# Altium footprint library Pattern No3d 20090609.PcbLib: 323 footprints (part 16 of 22)
Each footprint in its own frame and in the unit in brackets; x right, y up, seen from the top. Pads: shape width x height; smd on the part's side, far side on the other; paste and mask are expansions set on the pad; w line width, h text height; cw(c..) or ccw(c..) is an arc to the next point about the centre after c.
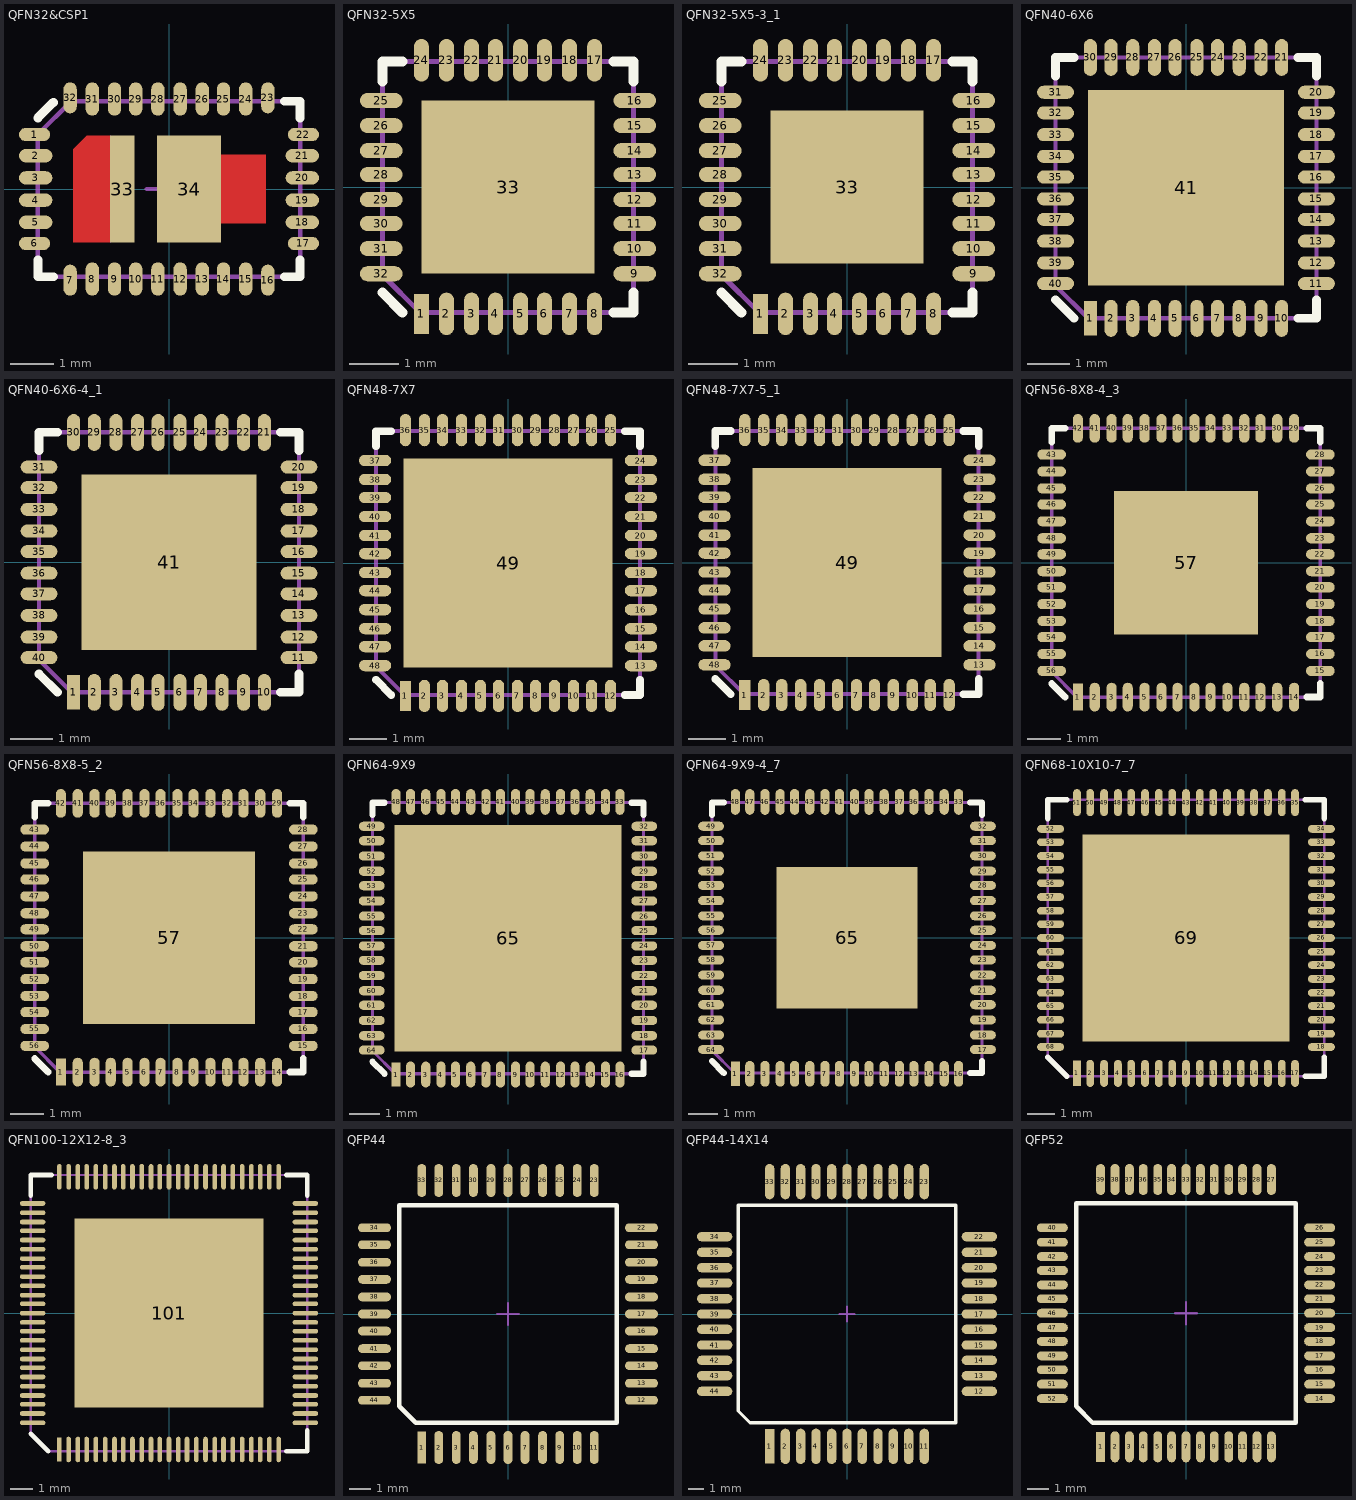
[diagram p15: the footprints below, top view; thin cyan lines are the x and y axes]

## QFN32&CSP1 [mil] "http://rfwireless.rell.com/pdfs/AN_C0283.pdf"
pads (34):
  oval 28x12 smd mask-1000: 1(-121,49) 6(-121,-49) 17(121,-49) 22(121,49)
  oval 30x12 smd mask-1000: 2(-120,30) 3(-120,10) 4(-120,-10) 5(-120,-30) 18(120,-30) 19(120,-10) 20(120,10) 21(120,30)
  oval 12x28 smd mask-1000: 7(-89,-82) 16(89,-82) 23(89,82) 32(-89,82)
  oval 12x30 smd mask-1000: 8(-69,-81) 9(-49,-81) 10(-30,-81) 11(-10,-81) 12(10,-81) 13(30,-81) 14(49,-81) 15(69,-81) 24(69,81) 25(49,81) 26(30,81) 27(10,81) 28(-10,81) 29(-30,81) 30(-49,81) 31(-69,81)
  rect 22x96 smd paste-1000 mask-1000: 33(-42,0)
  rect 58x96 smd paste-1000 mask-1000: 34(18,0)
Top Layer:
  region: -53,-48 -53,48 -74,48 -86,36 -86,-48
  region: 47,-31 87,-31 87,31 47,31
Top Overlay:
  lines w8: -118,-64 -118,-79 -104,-79 ; -118,64 -104,78 ; 104,-79 118,-79 118,-64 ; 104,79 118,79 118,64
Top Paste:
  region: 31,28 5,28 5,6 31,6
  region: 31,-6 5,-6 5,-28 31,-28
  region: 71,11 45,11 45,-11 71,-11
  region: -45,-6 -71,-6 -71,-28 -45,-28
  region: -45,28 -71,28 -71,6 -45,6
Top Solder:
  region: -28,51 -28,-51 -89,-51 -89,37 -75,51
  region: 50,-51 50,-34 90,-34 90,34 50,34 50,51 -14,51 -14,-51
  lines w14: -132,-30 -108,-30 ; -132,-10 -108,-10 ; -132,10 -108,10 ; -132,30 -108,30 ; -69,-93 -69,-69 ; -69,69 -69,93 ; -49,-93 -49,-69 ; -49,69 -49,93 ; -30,-93 -30,-69 ; -30,69 -30,93 ; -10,-93 -10,-69 ; -10,69 -10,93 ; 10,-93 10,-69 ; 10,69 10,93 ; 30,-93 30,-69 ; 30,69 30,93 ; 49,-93 49,-69 ; 49,69 49,93 ; 69,-93 69,-69 ; 69,69 69,93 ; 108,-30 132,-30 ; 108,-10 132,-10 ; 108,10 132,10 ; 108,30 132,30
  lines w16: -131,-50 -111,-50 ; -131,50 -111,50 ; -90,-92 -90,-72 ; -90,72 -90,92 ; 90,-92 90,-72 ; 90,72 90,92 ; 111,-50 131,-50 ; 111,50 131,50
Mechanical 1:
  lines w4: -118,-79 118,-79 118,79 -88,79 -118,49 -118,-79
Mechanical 15:
  lines w4: -20,0 20,0 ; 0,-20 0,20

## QFN32-5X5 [mil] "http://www.nxp.com/acrobat_download/packages/SOT617-3.pdf"
pads (33):
  rect 12x32 smd mask-1000: 1(-69,-101)
  oval 12x34 smd mask-1000: 2(-49,-101) 3(-29,-101) 4(-10,-101) 5(10,-101) 6(29,-101) 7(49,-101) 8(69,-101) 17(69,101) 18(49,101) 19(29,101) 20(10,101) 21(-10,101) 22(-29,101) 23(-49,101) 24(-69,101)
  oval 34x12 smd mask-1000: 9(101,-69) 10(101,-49) 11(101,-29) 12(101,-10) 13(101,10) 14(101,29) 15(101,49) 16(101,69) 25(-101,69) 26(-101,49) 27(-101,29) 28(-101,10) 29(-101,-10) 30(-101,-29) 31(-101,-49) 32(-101,-69)
  rect 138x138 smd paste-1000 mask+3: 33(0,0)
Top Overlay:
  lines w8: -100,-84 -84,-100 ; -100,84 -100,100 -84,100 ; 84,-100 100,-100 100,-84 ; 84,100 100,100 100,84
Top Paste:
  region: -42,-42 -22,-42 -22,-22 -42,-22
  region: -10,-42 10,-42 10,-22 -10,-22
  region: -10,-10 10,-10 10,10 -10,10
  region: -42,-10 -22,-10 -22,10 -42,10
  region: 22,-42 42,-42 42,-22 22,-22
  region: 22,-10 42,-10 42,10 22,10
  region: 22,22 42,22 42,42 22,42
  region: -42,22 -22,22 -22,42 -42,42
  region: -10,22 10,22 10,42 -10,42
Top Solder:
  region: -62,-121 -62,-81 -78,-81 -78,-121
  lines w14: -115,-49 -87,-49 ; -115,-29 -87,-29 ; -115,-10 -87,-10 ; -115,10 -87,10 ; -115,29 -87,29 ; -115,49 -87,49 ; -49,-115 -49,-87 ; -49,87 -49,115 ; -29,-115 -29,-87 ; -29,87 -29,115 ; -10,-115 -10,-87 ; -10,87 -10,115 ; 10,-115 10,-87 ; 10,87 10,115 ; 29,-115 29,-87 ; 29,87 29,115 ; 49,-115 49,-87 ; 49,87 49,115 ; 87,-49 115,-49 ; 87,-29 115,-29 ; 87,-10 115,-10 ; 87,10 115,10 ; 87,29 115,29 ; 87,49 115,49
  lines w16: -114,-70 -88,-70 ; -114,70 -88,70 ; -70,88 -70,114 ; 70,-114 70,-88 ; 70,88 70,114 ; 88,-70 114,-70 ; 88,70 114,70
Mechanical 1:
  lines w4: -100,-70 -70,-100 100,-100 100,100 -100,100 -100,-70
Mechanical 15:
  lines w4: -20,0 20,0 ; 0,-20 0,20

## QFN32-5X5-3_1 [mil] "http://www.nxp.com/acrobat_download/packages/SOT617-1.pdf"
pads (33):
  rect 12x32 smd mask-1000: 1(-69,-101)
  oval 12x34 smd mask-1000: 2(-49,-101) 3(-29,-101) 4(-10,-101) 5(10,-101) 6(29,-101) 7(49,-101) 8(69,-101) 17(69,101) 18(49,101) 19(29,101) 20(10,101) 21(-10,101) 22(-29,101) 23(-49,101) 24(-69,101)
  oval 34x12 smd mask-1000: 9(101,-69) 10(101,-49) 11(101,-29) 12(101,-10) 13(101,10) 14(101,29) 15(101,49) 16(101,69) 25(-101,69) 26(-101,49) 27(-101,29) 28(-101,10) 29(-101,-10) 30(-101,-29) 31(-101,-49) 32(-101,-69)
  rect 122x122 smd paste-1000 mask+3: 33(0,0)
Top Overlay:
  lines w8: -100,-84 -84,-100 ; -100,84 -100,100 -84,100 ; 84,-100 100,-100 100,-84 ; 84,100 100,100 100,84
Top Paste:
  region: 8,-36 36,-36 36,-8 8,-8
  region: -36,-36 -8,-36 -8,-8 -36,-8
  region: 8,8 36,8 36,36 8,36
  region: -36,8 -8,8 -8,36 -36,36
Top Solder:
  region: -62,-121 -62,-81 -78,-81 -78,-121
  lines w14: -115,-49 -87,-49 ; -115,-29 -87,-29 ; -115,-10 -87,-10 ; -115,10 -87,10 ; -115,29 -87,29 ; -115,49 -87,49 ; -49,-115 -49,-87 ; -49,87 -49,115 ; -29,-115 -29,-87 ; -29,87 -29,115 ; -10,-115 -10,-87 ; -10,87 -10,115 ; 10,-115 10,-87 ; 10,87 10,115 ; 29,-115 29,-87 ; 29,87 29,115 ; 49,-115 49,-87 ; 49,87 49,115 ; 87,-49 115,-49 ; 87,-29 115,-29 ; 87,-10 115,-10 ; 87,10 115,10 ; 87,29 115,29 ; 87,49 115,49
  lines w16: -114,-70 -88,-70 ; -114,70 -88,70 ; -70,88 -70,114 ; 70,-114 70,-88 ; 70,88 70,114 ; 88,-70 114,-70 ; 88,70 114,70
Mechanical 1:
  lines w4: -100,-70 -100,100 100,100 100,-100 -70,-100 -100,-70
Mechanical 15:
  lines w4: -20,0 20,0 ; 0,-20 0,20

## QFN40-6X6 [mil] "http://www.nxp.com/acrobat_download/packages/SOT618-3.pdf"
pads (41):
  rect 12x32 smd mask-1000: 1(-88,-120)
  oval 12x34 smd mask-1000: 2(-69,-120) 3(-49,-120) 4(-29,-120) 5(-10,-120) 6(10,-120) 7(29,-120) 8(49,-120) 9(69,-120) 10(88,-120) 21(88,120) 22(69,120) 23(49,120) 24(29,120) 25(10,120) 26(-10,120) 27(-29,120) 28(-49,120) 29(-69,120) 30(-88,120)
  oval 34x12 smd mask-1000: 11(120,-88) 12(120,-69) 13(120,-49) 14(120,-29) 15(120,-10) 16(120,10) 17(120,29) 18(120,49) 19(120,69) 20(120,88) 31(-120,88) 32(-120,69) 33(-120,49) 34(-120,29) 35(-120,10) 36(-120,-10) 37(-120,-29) 38(-120,-49) 39(-120,-69) 40(-120,-88)
  rect 180x180 smd paste-1000 mask+3: 41(0,0)
Top Overlay:
  lines w8: -120,-103 -103,-120 ; -120,103 -120,120 -103,120 ; 103,-120 120,-120 120,-103 ; 103,120 120,120 120,103
Top Paste:
  region: -49,-49 -23,-49 -23,-23 -49,-23
  region: -13,-49 13,-49 13,-23 -13,-23
  region: 23,-49 49,-49 49,-23 23,-23
  region: 23,-13 49,-13 49,13 23,13
  region: 23,23 49,23 49,49 23,49
  region: -13,23 13,23 13,49 -13,49
  region: -49,23 -23,23 -23,49 -49,49
  region: -49,-13 -23,-13 -23,13 -49,13
  region: -13,-13 13,-13 13,13 -13,13
Top Solder:
  region: -81,-139 -81,-101 -97,-101 -97,-139
  lines w14: -133,-69 -107,-69 ; -133,-49 -107,-49 ; -133,-29 -107,-29 ; -133,-10 -107,-10 ; -133,10 -107,10 ; -133,29 -107,29 ; -133,49 -107,49 ; -133,69 -107,69 ; -69,-133 -69,-107 ; -69,107 -69,133 ; -49,-133 -49,-107 ; -49,107 -49,133 ; -29,-133 -29,-107 ; -29,107 -29,133 ; -10,-133 -10,-107 ; -10,107 -10,133 ; 10,-133 10,-107 ; 10,107 10,133 ; 29,-133 29,-107 ; 29,107 29,133 ; 49,-133 49,-107 ; 49,107 49,133 ; 69,-133 69,-107 ; 69,107 69,133 ; 107,-69 133,-69 ; 107,-49 133,-49 ; 107,-29 133,-29 ; 107,-10 133,-10 ; 107,10 133,10 ; 107,29 133,29 ; 107,49 133,49 ; 107,69 133,69
  lines w16: -132,-89 -108,-89 ; -132,89 -108,89 ; -89,108 -89,132 ; 89,-132 89,-108 ; 89,108 89,132 ; 108,-89 132,-89 ; 108,89 132,89
Mechanical 1:
  lines w4: -120,-90 -90,-120 120,-120 120,120 -120,120 -120,-90
Mechanical 15:
  lines w4: -20,0 20,0 ; 0,-20 0,20

## QFN40-6X6-4_1 [mil] "http://www.nxp.com/acrobat_download/packages/SOT618-1.pdf"
pads (41):
  rect 12x32 smd mask-1000: 1(-88,-120)
  oval 12x34 smd mask-1000: 2(-69,-120) 3(-49,-120) 4(-29,-120) 5(-10,-120) 6(10,-120) 7(29,-120) 8(49,-120) 9(69,-120) 10(88,-120) 21(88,120) 22(69,120) 23(49,120) 24(29,120) 25(10,120) 26(-10,120) 27(-29,120) 28(-49,120) 29(-69,120) 30(-88,120)
  oval 34x12 smd mask-1000: 11(120,-88) 12(120,-69) 13(120,-49) 14(120,-29) 15(120,-10) 16(120,10) 17(120,29) 18(120,49) 19(120,69) 20(120,88) 31(-120,88) 32(-120,69) 33(-120,49) 34(-120,29) 35(-120,10) 36(-120,-10) 37(-120,-29) 38(-120,-49) 39(-120,-69) 40(-120,-88)
  rect 162x162 smd paste-1000 mask+3: 41(0,0)
Top Overlay:
  lines w8: -120,-103 -103,-120 ; -120,103 -120,120 -103,120 ; 103,-120 120,-120 120,-103 ; 103,120 120,120 120,103
Top Paste:
  region: 48,24 48,48 24,48 24,24
  region: -24,24 -24,48 -48,48 -48,24
  region: -48,-24 -48,-48 -24,-48 -24,-24
  region: 24,-24 24,-48 48,-48 48,-24
  region: -12,-24 -12,-48 12,-48 12,-24
  region: -24,12 -48,12 -48,-12 -24,-12
  region: 12,24 12,48 -12,48 -12,24
  region: 24,-12 48,-12 48,12 24,12
  region: -12,-12 12,-12 12,12 -12,12
Top Solder:
  region: -81,-140 -81,-100 -97,-100 -97,-140
  lines w14: -134,-69 -106,-69 ; -134,-49 -106,-49 ; -134,-29 -106,-29 ; -134,-10 -106,-10 ; -134,10 -106,10 ; -134,29 -106,29 ; -134,49 -106,49 ; -134,69 -106,69 ; -69,-134 -69,-106 ; -69,106 -69,134 ; -49,-134 -49,-106 ; -49,106 -49,134 ; -29,-134 -29,-106 ; -29,106 -29,134 ; -10,-134 -10,-106 ; -10,106 -10,134 ; 10,-134 10,-106 ; 10,106 10,134 ; 29,-134 29,-106 ; 29,106 29,134 ; 49,-134 49,-106 ; 49,106 49,134 ; 69,-134 69,-106 ; 69,106 69,134 ; 106,-69 134,-69 ; 106,-49 134,-49 ; 106,-29 134,-29 ; 106,-10 134,-10 ; 106,10 134,10 ; 106,29 134,29 ; 106,49 134,49 ; 106,69 134,69
  lines w16: -133,-89 -107,-89 ; -133,89 -107,89 ; -89,107 -89,133 ; 89,-133 89,-107 ; 89,107 89,133 ; 107,-89 133,-89 ; 107,89 133,89
Mechanical 1:
  lines w4: -120,-90 -120,120 120,120 120,-120 -90,-120 -120,-90
Mechanical 15:
  lines w4: -20,0 20,0 ; 0,-20 0,20

## QFN48-7X7 [mil] "http://www.nxp.com/acrobat_download/packages/SOT619-5.pdf"
pads (49):
  rect 12x32 smd mask-1000: 1(-108,-140)
  oval 12x34 smd mask-1000: 2(-88,-140) 3(-69,-140) 4(-49,-140) 5(-29,-140) 6(-10,-140) 7(10,-140) 8(29,-140) 9(49,-140) 10(69,-140) 11(88,-140) 12(108,-140) 25(108,140) 26(88,140) 27(69,140) 28(49,140) 29(29,140) 30(10,140) 31(-10,140) 32(-29,140) 33(-49,140) 34(-69,140) 35(-88,140) 36(-108,140)
  oval 34x12 smd mask-1000: 13(140,-108) 14(140,-88) 15(140,-69) 16(140,-49) 17(140,-29) 18(140,-10) 19(140,10) 20(140,29) 21(140,49) 22(140,69) 23(140,88) 24(140,108) 37(-140,108) 38(-140,88) 39(-140,69) 40(-140,49) 41(-140,29) 42(-140,10) 43(-140,-10) 44(-140,-29) 45(-140,-49) 46(-140,-69) 47(-140,-88) 48(-140,-108)
  rect 220x220 smd paste-1000 mask+3: 49(0,0)
Top Overlay:
  lines w8: -139,-123 -123,-139 ; -139,123 -139,139 -123,139 ; 123,-139 139,-139 139,-123 ; 123,139 139,139 139,123
Top Paste:
  region: 28,-16 60,-16 60,16 28,16
  region: -16,-16 16,-16 16,16 -16,16
  region: 16,28 16,60 -16,60 -16,28
  region: 60,28 60,60 28,60 28,28
  region: -28,16 -60,16 -60,-16 -28,-16
  region: -28,60 -60,60 -60,28 -28,28
  region: -16,-28 -16,-60 16,-60 16,-28
  region: -60,-28 -60,-60 -28,-60 -28,-28
  region: 28,-28 28,-60 60,-60 60,-28
Top Solder:
  region: -101,-159 -101,-121 -117,-121 -117,-159
  lines w14: -153,-88 -127,-88 ; -153,-69 -127,-69 ; -153,-49 -127,-49 ; -153,-29 -127,-29 ; -153,-10 -127,-10 ; -153,10 -127,10 ; -153,29 -127,29 ; -153,49 -127,49 ; -153,69 -127,69 ; -153,88 -127,88 ; -88,-153 -88,-127 ; -88,127 -88,153 ; -69,-153 -69,-127 ; -69,127 -69,153 ; -49,-153 -49,-127 ; -49,127 -49,153 ; -29,-153 -29,-127 ; -29,127 -29,153 ; -10,-153 -10,-127 ; -10,127 -10,153 ; 10,-153 10,-127 ; 10,127 10,153 ; 29,-153 29,-127 ; 29,127 29,153 ; 49,-153 49,-127 ; 49,127 49,153 ; 69,-153 69,-127 ; 69,127 69,153 ; 88,-153 88,-127 ; 88,127 88,153 ; 127,-88 153,-88 ; 127,-69 153,-69 ; 127,-49 153,-49 ; 127,-29 153,-29 ; 127,-10 153,-10 ; 127,10 153,10 ; 127,29 153,29 ; 127,49 153,49 ; 127,69 153,69 ; 127,88 153,88
  lines w16: -152,-109 -128,-109 ; -152,109 -128,109 ; -109,128 -109,152 ; 109,-152 109,-128 ; 109,128 109,152 ; 128,-109 152,-109 ; 128,109 152,109
Mechanical 1:
  lines w4: -139,-109 -109,-139 139,-139 139,139 -139,139 -139,-109
Mechanical 15:
  lines w4: -20,0 20,0 ; 0,-20 0,20

## QFN48-7X7-5_1 [mil] "http://www.nxp.com/acrobat_download/packages/SOT619-1.pdf"
pads (49):
  rect 12x32 smd mask-1000: 1(-108,-140)
  oval 12x34 smd mask-1000: 2(-88,-140) 3(-69,-140) 4(-49,-140) 5(-29,-140) 6(-10,-140) 7(10,-140) 8(29,-140) 9(49,-140) 10(69,-140) 11(88,-140) 12(108,-140) 25(108,140) 26(88,140) 27(69,140) 28(49,140) 29(29,140) 30(10,140) 31(-10,140) 32(-29,140) 33(-49,140) 34(-69,140) 35(-88,140) 36(-108,140)
  oval 34x12 smd mask-1000: 13(140,-108) 14(140,-88) 15(140,-69) 16(140,-49) 17(140,-29) 18(140,-10) 19(140,10) 20(140,29) 21(140,49) 22(140,69) 23(140,88) 24(140,108) 37(-140,108) 38(-140,88) 39(-140,69) 40(-140,49) 41(-140,29) 42(-140,10) 43(-140,-10) 44(-140,-29) 45(-140,-49) 46(-140,-69) 47(-140,-88) 48(-140,-108)
  rect 200x200 smd paste-1000 mask+3: 49(0,0)
Top Overlay:
  lines w8: -139,-123 -123,-139 ; -139,123 -139,139 -123,139 ; 123,-139 139,-139 139,-123 ; 123,139 139,139 139,123
Top Paste:
  region: -15,-60 15,-60 15,-30 -15,-30
  region: 30,-60 60,-60 60,-30 30,-30
  region: -60,-60 -30,-60 -30,-30 -60,-30
  region: -60,-15 -30,-15 -30,15 -60,15
  region: -15,-15 15,-15 15,15 -15,15
  region: 30,-15 60,-15 60,15 30,15
  region: 30,30 60,30 60,60 30,60
  region: -15,30 15,30 15,60 -15,60
  region: -60,30 -30,30 -30,60 -60,60
Top Solder:
  region: -101,-160 -101,-120 -117,-120 -117,-160
  lines w14: -154,-88 -126,-88 ; -154,-69 -126,-69 ; -154,-49 -126,-49 ; -154,-29 -126,-29 ; -154,-10 -126,-10 ; -154,10 -126,10 ; -154,29 -126,29 ; -154,49 -126,49 ; -154,69 -126,69 ; -154,88 -126,88 ; -88,-154 -88,-126 ; -88,126 -88,154 ; -69,-154 -69,-126 ; -69,126 -69,154 ; -49,-154 -49,-126 ; -49,126 -49,154 ; -29,-154 -29,-126 ; -29,126 -29,154 ; -10,-154 -10,-126 ; -10,126 -10,154 ; 10,-154 10,-126 ; 10,126 10,154 ; 29,-154 29,-126 ; 29,126 29,154 ; 49,-154 49,-126 ; 49,126 49,154 ; 69,-154 69,-126 ; 69,126 69,154 ; 88,-154 88,-126 ; 88,126 88,154 ; 126,-88 154,-88 ; 126,-69 154,-69 ; 126,-49 154,-49 ; 126,-29 154,-29 ; 126,-10 154,-10 ; 126,10 154,10 ; 126,29 154,29 ; 126,49 154,49 ; 126,69 154,69 ; 126,88 154,88
  lines w16: -153,-109 -127,-109 ; -153,109 -127,109 ; -109,127 -109,153 ; 109,-153 109,-127 ; 109,127 109,153 ; 127,-109 153,-109 ; 127,109 153,109
Mechanical 1:
  lines w4: -139,-109 -139,139 139,139 139,-139 -109,-139 -139,-109
Mechanical 15:
  lines w4: -20,0 20,0 ; 0,-20 0,20

## QFN56-8X8-4_3 [mil] "http://www.nxp.com/acrobat_download/packages/SOT684-1.pdf"
pads (57):
  rect 12x32 smd mask-1000: 1(-128,-159)
  oval 12x34 smd mask-1000: 2(-108,-159) 3(-88,-159) 4(-69,-159) 5(-49,-159) 6(-29,-159) 7(-10,-159) 8(10,-159) 9(29,-159) 10(49,-159) 11(69,-159) 12(88,-159) 13(108,-159) 14(128,-159) 29(128,159) 30(108,159) 31(88,159) 32(69,159) 33(49,159) 34(29,159) 35(10,159) 36(-10,159) 37(-29,159) 38(-49,159) 39(-69,159) 40(-88,159) 41(-108,159) 42(-128,159)
  oval 34x12 smd mask-1000: 15(159,-128) 16(159,-108) 17(159,-88) 18(159,-69) 19(159,-49) 20(159,-29) 21(159,-10) 22(159,10) 23(159,29) 24(159,49) 25(159,69) 26(159,88) 27(159,108) 28(159,128) 43(-159,128) 44(-159,108) 45(-159,88) 46(-159,69) 47(-159,49) 48(-159,29) 49(-159,10) 50(-159,-10) 51(-159,-29) 52(-159,-49) 53(-159,-69) 54(-159,-88) 55(-159,-108) 56(-159,-128)
  rect 170x170 smd paste-1000 mask+3: 57(0,0)
Top Overlay:
  lines w8: -159,-143 -143,-159 ; -159,143 -159,159 -143,159 ; 143,-159 159,-159 159,-143 ; 143,159 159,159 159,143
Top Paste:
  region: -13,-13 13,-13 13,13 -13,13
  region: 23,-13 49,-13 49,13 23,13
  region: 13,23 13,49 -13,49 -13,23
  region: 49,23 49,49 23,49 23,23
  region: 23,-23 23,-49 49,-49 49,-23
  region: -13,-23 -13,-49 13,-49 13,-23
  region: -23,13 -49,13 -49,-13 -23,-13
  region: -23,49 -49,49 -49,23 -23,23
  region: -23,-23 -49,-23 -49,-49 -23,-49
Top Solder:
  region: -121,-179 -121,-139 -137,-139 -137,-179
  lines w14: -173,-108 -145,-108 ; -173,-88 -145,-88 ; -173,-69 -145,-69 ; -173,-49 -145,-49 ; -173,-29 -145,-29 ; -173,-10 -145,-10 ; -173,10 -145,10 ; -173,29 -145,29 ; -173,49 -145,49 ; -173,69 -145,69 ; -173,88 -145,88 ; -173,108 -145,108 ; -108,-173 -108,-145 ; -108,145 -108,173 ; -88,-173 -88,-145 ; -88,145 -88,173 ; -69,-173 -69,-145 ; -69,145 -69,173 ; -49,-173 -49,-145 ; -49,145 -49,173 ; -29,-173 -29,-145 ; -29,145 -29,173 ; -10,-173 -10,-145 ; -10,145 -10,173 ; 10,-173 10,-145 ; 10,145 10,173 ; 29,-173 29,-145 ; 29,145 29,173 ; 49,-173 49,-145 ; 49,145 49,173 ; 69,-173 69,-145 ; 69,145 69,173 ; 88,-173 88,-145 ; 88,145 88,173 ; 108,-173 108,-145 ; 108,145 108,173 ; 145,-108 173,-108 ; 145,-88 173,-88 ; 145,-69 173,-69 ; 145,-49 173,-49 ; 145,-29 173,-29 ; 145,-10 173,-10 ; 145,10 173,10 ; 145,29 173,29 ; 145,49 173,49 ; 145,69 173,69 ; 145,88 173,88 ; 145,108 173,108
  lines w16: -172,-129 -146,-129 ; -172,129 -146,129 ; -129,146 -129,172 ; 129,-172 129,-146 ; 129,146 129,172 ; 146,-129 172,-129 ; 146,129 172,129
Mechanical 1:
  lines w4: -159,-129 -129,-159 159,-159 159,159 -159,159 -159,-129
Mechanical 15:
  lines w4: -20,0 20,0 ; 0,-20 0,20

## QFN56-8X8-5_2 [mil] "http://www.nxp.com/acrobat_download/packages/SOT684-2.pdf"
pads (57):
  rect 12x32 smd mask-1000: 1(-128,-159)
  oval 12x34 smd mask-1000: 2(-108,-159) 3(-88,-159) 4(-69,-159) 5(-49,-159) 6(-29,-159) 7(-10,-159) 8(10,-159) 9(29,-159) 10(49,-159) 11(69,-159) 12(88,-159) 13(108,-159) 14(128,-159) 29(128,159) 30(108,159) 31(88,159) 32(69,159) 33(49,159) 34(29,159) 35(10,159) 36(-10,159) 37(-29,159) 38(-49,159) 39(-69,159) 40(-88,159) 41(-108,159) 42(-128,159)
  oval 34x12 smd mask-1000: 15(159,-128) 16(159,-108) 17(159,-88) 18(159,-69) 19(159,-49) 20(159,-29) 21(159,-10) 22(159,10) 23(159,29) 24(159,49) 25(159,69) 26(159,88) 27(159,108) 28(159,128) 43(-159,128) 44(-159,108) 45(-159,88) 46(-159,69) 47(-159,49) 48(-159,29) 49(-159,10) 50(-159,-10) 51(-159,-29) 52(-159,-49) 53(-159,-69) 54(-159,-88) 55(-159,-108) 56(-159,-128)
  rect 204x204 smd paste-1000 mask+3: 57(0,0)
Top Overlay:
  lines w8: -159,-143 -143,-159 ; -159,143 -159,159 -143,159 ; 143,-159 159,-159 159,-143 ; 143,159 159,159 159,143
Top Paste:
  region: -62,-62 -38,-62 -38,-38 -62,-38
  region: -29,-62 -5,-62 -5,-38 -29,-38
  region: 5,-62 29,-62 29,-38 5,-38
  region: 38,-62 62,-62 62,-38 38,-38
  region: 38,-29 62,-29 62,-5 38,-5
  region: 5,-29 29,-29 29,-5 5,-5
  region: -29,-29 -5,-29 -5,-5 -29,-5
  region: -62,-29 -38,-29 -38,-5 -62,-5
  region: -62,5 -38,5 -38,29 -62,29
  region: -29,5 -5,5 -5,29 -29,29
  region: 5,5 29,5 29,29 5,29
  region: 38,5 62,5 62,29 38,29
  region: -62,38 -38,38 -38,62 -62,62
  region: -29,38 -5,38 -5,62 -29,62
  region: 5,38 29,38 29,62 5,62
  region: 38,38 62,38 62,62 38,62
Top Solder:
  region: -121,-179 -121,-139 -137,-139 -137,-179
  lines w14: -173,-108 -145,-108 ; -173,-88 -145,-88 ; -173,-69 -145,-69 ; -173,-49 -145,-49 ; -173,-29 -145,-29 ; -173,-10 -145,-10 ; -173,10 -145,10 ; -173,29 -145,29 ; -173,49 -145,49 ; -173,69 -145,69 ; -173,88 -145,88 ; -173,108 -145,108 ; -108,-173 -108,-145 ; -108,145 -108,173 ; -88,-173 -88,-145 ; -88,145 -88,173 ; -69,-173 -69,-145 ; -69,145 -69,173 ; -49,-173 -49,-145 ; -49,145 -49,173 ; -29,-173 -29,-145 ; -29,145 -29,173 ; -10,-173 -10,-145 ; -10,145 -10,173 ; 10,-173 10,-145 ; 10,145 10,173 ; 29,-173 29,-145 ; 29,145 29,173 ; 49,-173 49,-145 ; 49,145 49,173 ; 69,-173 69,-145 ; 69,145 69,173 ; 88,-173 88,-145 ; 88,145 88,173 ; 108,-173 108,-145 ; 108,145 108,173 ; 145,-108 173,-108 ; 145,-88 173,-88 ; 145,-69 173,-69 ; 145,-49 173,-49 ; 145,-29 173,-29 ; 145,-10 173,-10 ; 145,10 173,10 ; 145,29 173,29 ; 145,49 173,49 ; 145,69 173,69 ; 145,88 173,88 ; 145,108 173,108
  lines w16: -172,-129 -146,-129 ; -172,129 -146,129 ; -129,146 -129,172 ; 129,-172 129,-146 ; 129,146 129,172 ; 146,-129 172,-129 ; 146,129 172,129
Mechanical 1:
  lines w4: -159,-129 -129,-159 159,-159 159,159 -159,159 -159,-129
Mechanical 15:
  lines w4: -20,0 20,0 ; 0,-20 0,20

## QFN64-9X9 [mil] "http://www.linear.com/designtools/packaging/qfn/UP64.pdf"
pads (65):
  rect 12x32 smd mask-1000: 1(-147,-179)
  oval 12x34 smd mask-1000: 2(-128,-179) 3(-108,-179) 4(-88,-179) 5(-69,-179) 6(-49,-179) 7(-29,-179) 8(-10,-179) 9(10,-179) 10(29,-179) 11(49,-179) 12(69,-179) 13(88,-179) 14(108,-179) 15(128,-179) 16(147,-179) 33(147,179) 34(128,179) 35(108,179) 36(88,179) 37(69,179) 38(49,179) 39(29,179) 40(10,179) 41(-10,179) 42(-29,179) 43(-49,179) 44(-69,179) 45(-88,179) 46(-108,179) 47(-128,179) 48(-147,179)
  oval 34x12 smd mask-1000: 17(179,-147) 18(179,-128) 19(179,-108) 20(179,-88) 21(179,-69) 22(179,-49) 23(179,-29) 24(179,-10) 25(179,10) 26(179,29) 27(179,49) 28(179,69) 29(179,88) 30(179,108) 31(179,128) 32(179,147) 49(-179,147) 50(-179,128) 51(-179,108) 52(-179,88) 53(-179,69) 54(-179,49) 55(-179,29) 56(-179,10) 57(-179,-10) 58(-179,-29) 59(-179,-49) 60(-179,-69) 61(-179,-88) 62(-179,-108) 63(-179,-128) 64(-179,-147)
  rect 298x298 smd paste-1000 mask+3: 65(0,0)
Top Overlay:
  lines w8: -178,-162 -162,-178 ; -178,162 -178,178 -162,178 ; 162,-178 178,-178 178,-162 ; 162,178 178,178 178,162
Top Paste:
  region: 66,26 94,26 94,54 66,54
  region: 94,66 94,94 66,94 66,66
  region: 54,66 54,94 26,94 26,66
  region: 14,94 -14,94 -14,66 14,66
  region: 66,14 66,-14 94,-14 94,14
  region: -26,94 -54,94 -54,66 -26,66
  region: 94,-54 94,-26 66,-26 66,-54
  region: -66,94 -94,94 -94,66 -66,66
  region: 94,-94 94,-66 66,-66 66,-94
  region: 54,-94 54,-66 26,-66 26,-94
  region: -66,54 -94,54 -94,26 -66,26
  region: 26,-26 26,-54 54,-54 54,-26
  region: -26,54 -54,54 -54,26 -26,26
  region: 14,26 14,54 -14,54 -14,26
  region: 54,26 54,54 26,54 26,26
  region: 26,-14 54,-14 54,14 26,14
  region: -54,-54 -26,-54 -26,-26 -54,-26
  region: -14,-54 14,-54 14,-26 -14,-26
  region: 14,-14 14,14 -14,14 -14,-14
  region: -26,-14 -26,14 -54,14 -54,-14
  region: -66,-26 -94,-26 -94,-54 -66,-54
  region: -66,14 -94,14 -94,-14 -66,-14
  region: -54,-66 -54,-94 -26,-94 -26,-66
  region: -14,-66 -14,-94 14,-94 14,-66
  region: -94,-66 -94,-94 -66,-94 -66,-66
Top Solder:
  region: -140,-198 -140,-160 -156,-160 -156,-198
  lines w14: -192,-128 -166,-128 ; -192,-108 -166,-108 ; -192,-88 -166,-88 ; -192,-69 -166,-69 ; -192,-49 -166,-49 ; -192,-29 -166,-29 ; -192,-10 -166,-10 ; -192,10 -166,10 ; -192,29 -166,29 ; -192,49 -166,49 ; -192,69 -166,69 ; -192,88 -166,88 ; -192,108 -166,108 ; -192,128 -166,128 ; -128,-192 -128,-166 ; -128,166 -128,192 ; -108,-192 -108,-166 ; -108,166 -108,192 ; -88,-192 -88,-166 ; -88,166 -88,192 ; -69,-192 -69,-166 ; -69,166 -69,192 ; -49,-192 -49,-166 ; -49,166 -49,192 ; -29,-192 -29,-166 ; -29,166 -29,192 ; -10,-192 -10,-166 ; -10,166 -10,192 ; 10,-192 10,-166 ; 10,166 10,192 ; 29,-192 29,-166 ; 29,166 29,192 ; 49,-192 49,-166 ; 49,166 49,192 ; 69,-192 69,-166 ; 69,166 69,192 ; 88,-192 88,-166 ; 88,166 88,192 ; 108,-192 108,-166 ; 108,166 108,192 ; 128,-192 128,-166 ; 128,166 128,192 ; 166,-128 192,-128 ; 166,-108 192,-108 ; 166,-88 192,-88 ; 166,-69 192,-69 ; 166,-49 192,-49 ; 166,-29 192,-29 ; 166,-10 192,-10 ; 166,10 192,10 ; 166,29 192,29 ; 166,49 192,49 ; 166,69 192,69 ; 166,88 192,88 ; 166,108 192,108 ; 166,128 192,128
  lines w16: -191,-148 -167,-148 ; -191,148 -167,148 ; -148,167 -148,191 ; 148,-191 148,-167 ; 148,167 148,191 ; 167,-148 191,-148 ; 167,148 191,148
Mechanical 1:
  lines w4: -178,-148 -178,178 178,178 178,-178 -148,-178 -178,-148
Mechanical 15:
  lines w4: -20,0 20,0 ; 0,-20 0,20

## QFN64-9X9-4_7 [mil] "http://www.nxp.com/acrobat_download/packages/SOT804-1.pdf"
pads (65):
  rect 12x32 smd mask-1000: 1(-147,-179)
  oval 12x34 smd mask-1000: 2(-128,-179) 3(-108,-179) 4(-88,-179) 5(-69,-179) 6(-49,-179) 7(-29,-179) 8(-10,-179) 9(10,-179) 10(29,-179) 11(49,-179) 12(69,-179) 13(88,-179) 14(108,-179) 15(128,-179) 16(147,-179) 33(147,179) 34(128,179) 35(108,179) 36(88,179) 37(69,179) 38(49,179) 39(29,179) 40(10,179) 41(-10,179) 42(-29,179) 43(-49,179) 44(-69,179) 45(-88,179) 46(-108,179) 47(-128,179) 48(-147,179)
  oval 34x12 smd mask-1000: 17(179,-147) 18(179,-128) 19(179,-108) 20(179,-88) 21(179,-69) 22(179,-49) 23(179,-29) 24(179,-10) 25(179,10) 26(179,29) 27(179,49) 28(179,69) 29(179,88) 30(179,108) 31(179,128) 32(179,147) 49(-179,147) 50(-179,128) 51(-179,108) 52(-179,88) 53(-179,69) 54(-179,49) 55(-179,29) 56(-179,10) 57(-179,-10) 58(-179,-29) 59(-179,-49) 60(-179,-69) 61(-179,-88) 62(-179,-108) 63(-179,-128) 64(-179,-147)
  rect 186x186 smd paste-1000 mask+3: 65(0,0)
Top Overlay:
  lines w8: -178,-162 -162,-178 ; -178,162 -178,178 -162,178 ; 162,-178 178,-178 178,-162 ; 162,178 178,178 178,162
Top Paste:
  region: -14,-14 14,-14 14,14 -14,14
  region: 28,-14 56,-14 56,14 28,14
  region: 56,28 56,56 28,56 28,28
  region: 14,28 14,56 -14,56 -14,28
  region: -28,14 -56,14 -56,-14 -28,-14
  region: -28,56 -56,56 -56,28 -28,28
  region: -14,-28 -14,-56 14,-56 14,-28
  region: 28,-28 28,-56 56,-56 56,-28
  region: -56,-28 -56,-56 -28,-56 -28,-28
Top Solder:
  region: -140,-199 -140,-159 -156,-159 -156,-199
  lines w14: -193,-128 -165,-128 ; -193,-108 -165,-108 ; -193,-88 -165,-88 ; -193,-69 -165,-69 ; -193,-49 -165,-49 ; -193,-29 -165,-29 ; -193,-10 -165,-10 ; -193,10 -165,10 ; -193,29 -165,29 ; -193,49 -165,49 ; -193,69 -165,69 ; -193,88 -165,88 ; -193,108 -165,108 ; -193,128 -165,128 ; -128,-193 -128,-165 ; -128,165 -128,193 ; -108,-193 -108,-165 ; -108,165 -108,193 ; -88,-193 -88,-165 ; -88,165 -88,193 ; -69,-193 -69,-165 ; -69,165 -69,193 ; -49,-193 -49,-165 ; -49,165 -49,193 ; -29,-193 -29,-165 ; -29,165 -29,193 ; -10,-193 -10,-165 ; -10,165 -10,193 ; 10,-193 10,-165 ; 10,165 10,193 ; 29,-193 29,-165 ; 29,165 29,193 ; 49,-193 49,-165 ; 49,165 49,193 ; 69,-193 69,-165 ; 69,165 69,193 ; 88,-193 88,-165 ; 88,165 88,193 ; 108,-193 108,-165 ; 108,165 108,193 ; 128,-193 128,-165 ; 128,165 128,193 ; 165,-128 193,-128 ; 165,-108 193,-108 ; 165,-88 193,-88 ; 165,-69 193,-69 ; 165,-49 193,-49 ; 165,-29 193,-29 ; 165,-10 193,-10 ; 165,10 193,10 ; 165,29 193,29 ; 165,49 193,49 ; 165,69 193,69 ; 165,88 193,88 ; 165,108 193,108 ; 165,128 193,128
  lines w16: -192,-148 -166,-148 ; -192,148 -166,148 ; -148,166 -148,192 ; 148,-192 148,-166 ; 148,166 148,192 ; 166,-148 192,-148 ; 166,148 192,148
Mechanical 1:
  lines w4: -178,-148 -178,178 178,178 178,-178 -148,-178 -178,-148
Mechanical 15:
  lines w4: -20,0 20,0 ; 0,-20 0,20

## QFN68-10X10-7_7 [mil] "http://pdfserv.maxim-ic.com/package_dwgs/21-0122.PDF"
pads (69):
  rect 11x37 smd mask-1000: 1(-157,-195)
  oval 11x39 smd mask-1000: 2(-138,-195) 3(-118,-195) 4(-98,-195) 5(-79,-195) 6(-59,-195) 7(-39,-195) 8(-20,-195) 9(0,-195) 10(20,-195) 11(39,-195) 12(59,-195) 13(79,-195) 14(98,-195) 15(118,-195) 16(138,-195) 17(157,-195) 35(157,195) 36(138,195) 37(118,195) 38(98,195) 39(79,195) 40(59,195) 41(39,195) 42(20,195) 43(0,195) 44(-20,195) 45(-39,195) 46(-59,195) 47(-79,195) 48(-98,195) 49(-118,195) 50(-138,195) 51(-157,195)
  oval 39x11 smd mask-1000: 18(195,-157) 19(195,-138) 20(195,-118) 21(195,-98) 22(195,-79) 23(195,-59) 24(195,-39) 25(195,-20) 26(195,0) 27(195,20) 28(195,39) 29(195,59) 30(195,79) 31(195,98) 32(195,118) 33(195,138) 34(195,157) 52(-195,157) 53(-195,138) 54(-195,118) 55(-195,98) 56(-195,79) 57(-195,59) 58(-195,39) 59(-195,20) 60(-195,0) 61(-195,-20) 62(-195,-39) 63(-195,-59) 64(-195,-79) 65(-195,-98) 66(-195,-118) 67(-195,-138) 68(-195,-157)
  rect 298x298 smd paste-1000 mask+3: 69(0,0)
Top Overlay:
  lines w8: -199,-172 -172,-199 ; -199,172 -199,199 -172,199 ; 172,-199 199,-199 199,-172 ; 172,199 199,199 199,172
Top Paste:
  region: 66,26 94,26 94,54 66,54
  region: 94,66 94,94 66,94 66,66
  region: 54,66 54,94 26,94 26,66
  region: 14,94 -14,94 -14,66 14,66
  region: 66,14 66,-14 94,-14 94,14
  region: -26,94 -54,94 -54,66 -26,66
  region: 94,-54 94,-26 66,-26 66,-54
  region: -66,94 -94,94 -94,66 -66,66
  region: 94,-94 94,-66 66,-66 66,-94
  region: 54,-94 54,-66 26,-66 26,-94
  region: -66,54 -94,54 -94,26 -66,26
  region: 26,-26 26,-54 54,-54 54,-26
  region: -26,54 -54,54 -54,26 -26,26
  region: 14,26 14,54 -14,54 -14,26
  region: 54,26 54,54 26,54 26,26
  region: 26,-14 54,-14 54,14 26,14
  region: -54,-54 -26,-54 -26,-26 -54,-26
  region: -14,-54 14,-54 14,-26 -14,-26
  region: 14,-14 14,14 -14,14 -14,-14
  region: -26,-14 -26,14 -54,14 -54,-14
  region: -66,-26 -94,-26 -94,-54 -66,-54
  region: -66,14 -94,14 -94,-14 -66,-14
  region: -54,-66 -54,-94 -26,-94 -26,-66
  region: -14,-66 -14,-94 14,-94 14,-66
  region: -94,-66 -94,-94 -66,-94 -66,-66
Top Solder:
  region: -150.5,-217.5 -150.5,-172.5 -165.5,-172.5 -165.5,-217.5
  lines w13: -212,-138 -178,-138 ; -212,-118 -178,-118 ; -212,-98 -178,-98 ; -212,-79 -178,-79 ; -212,-59 -178,-59 ; -212,-39 -178,-39 ; -212,-20 -178,-20 ; -212,0 -178,0 ; -212,20 -178,20 ; -212,39 -178,39 ; -212,59 -178,59 ; -212,79 -178,79 ; -212,98 -178,98 ; -212,118 -178,118 ; -212,138 -178,138 ; -138,-212 -138,-178 ; -138,178 -138,212 ; -118,-212 -118,-178 ; -118,178 -118,212 ; -98,-212 -98,-178 ; -98,178 -98,212 ; -79,-212 -79,-178 ; -79,178 -79,212 ; -59,-212 -59,-178 ; -59,178 -59,212 ; -39,-212 -39,-178 ; -39,178 -39,212 ; -20,-212 -20,-178 ; -20,178 -20,212 ; 0,-212 0,-178 ; 0,178 0,212 ; 20,-212 20,-178 ; 20,178 20,212 ; 39,-212 39,-178 ; 39,178 39,212 ; 59,-212 59,-178 ; 59,178 59,212 ; 79,-212 79,-178 ; 79,178 79,212 ; 98,-212 98,-178 ; 98,178 98,212 ; 118,-212 118,-178 ; 118,178 118,212 ; 138,-212 138,-178 ; 138,178 138,212 ; 178,-138 212,-138 ; 178,-118 212,-118 ; 178,-98 212,-98 ; 178,-79 212,-79 ; 178,-59 212,-59 ; 178,-39 212,-39 ; 178,-20 212,-20 ; 178,0 212,0 ; 178,20 212,20 ; 178,39 212,39 ; 178,59 212,59 ; 178,79 212,79 ; 178,98 212,98 ; 178,118 212,118 ; 178,138 212,138
  lines w15: -211,-158 -179,-158 ; -211,158 -179,158 ; -158,179 -158,211 ; 158,-211 158,-179 ; 158,179 158,211 ; 179,-158 211,-158 ; 179,158 211,158
Mechanical 1:
  lines w4: -199,-169 -169,-199 199,-199 199,199 -199,199 -199,-169
Mechanical 15:
  lines w4: -20,0 20,0 ; 0,-20 0,20

## QFN100-12X12-8_3 [mil] "http://www.nxp.com/acrobat_download/packages/SOT817-1.pdf"
pads (101):
  rect 8x42 smd mask-1000: 1(-189,-235)
  oval 8x44 smd mask-1000: 2(-173,-235) 3(-157,-235) 4(-142,-235) 5(-126,-235) 6(-110,-235) 7(-94,-235) 8(-79,-235) 9(-63,-235) 10(-47,-235) 11(-31,-235) 12(-16,-235) 13(0,-235) 14(16,-235) 15(31,-235) 16(47,-235) 17(63,-235) 18(79,-235) 19(94,-235) 20(110,-235) 21(126,-235) 22(142,-235) 23(157,-235) 24(173,-235) 25(189,-235) 51(189,235) 52(173,235) 53(157,235) 54(142,235) 55(126,235) 56(110,235) 57(94,235) 58(79,235) 59(63,235) 60(47,235) 61(31,235) 62(16,235) 63(0,235) 64(-16,235) 65(-31,235) 66(-47,235) 67(-63,235) 68(-79,235) 69(-94,235) 70(-110,235) 71(-126,235) 72(-142,235) 73(-157,235) 74(-173,235) 75(-189,235)
  oval 44x8 smd mask-1000: 26(235,-189) 27(235,-173) 28(235,-157) 29(235,-142) 30(235,-126) 31(235,-110) 32(235,-94) 33(235,-79) 34(235,-63) 35(235,-47) 36(235,-31) 37(235,-16) 38(235,0) 39(235,16) 40(235,31) 41(235,47) 42(235,63) 43(235,79) 44(235,94) 45(235,110) 46(235,126) 47(235,142) 48(235,157) 49(235,173) 50(235,189) 76(-235,189) 77(-235,173) 78(-235,157) 79(-235,142) 80(-235,126) 81(-235,110) 82(-235,94) 83(-235,79) 84(-235,63) 85(-235,47) 86(-235,31) 87(-235,16) 88(-235,0) 89(-235,-16) 90(-235,-31) 91(-235,-47) 92(-235,-63) 93(-235,-79) 94(-235,-94) 95(-235,-110) 96(-235,-126) 97(-235,-142) 98(-235,-157) 99(-235,-173) 100(-235,-189)
  rect 326x326 smd paste-1000 mask+3: 101(0,0)
Top Overlay:
  lines w8: -238,-208 -208,-238 ; -238,202 -238,238 -202,238 ; 202,-238 238,-238 238,-202 ; 202,238 238,238 238,202
Top Paste:
  region: 15,-15 15,15 -15,15 -15,-15
  region: 56,-15 56,15 26,15 26,-15
  region: 97,-15 97,15 67,15 67,-15
  region: -26,-15 -26,15 -56,15 -56,-15
  region: -67,-15 -67,15 -97,15 -97,-15
  region: -67,26 -67,56 -97,56 -97,26
  region: -26,26 -26,56 -56,56 -56,26
  region: 97,26 97,56 67,56 67,26
  region: 56,26 56,56 26,56 26,26
  region: 15,26 15,56 -15,56 -15,26
  region: -67,67 -67,97 -97,97 -97,67
  region: -26,67 -26,97 -56,97 -56,67
  region: 97,67 97,97 67,97 67,67
  region: 56,67 56,97 26,97 26,67
  region: 15,67 15,97 -15,97 -15,67
  region: -67,-56 -67,-26 -97,-26 -97,-56
  region: -26,-56 -26,-26 -56,-26 -56,-56
  region: 97,-56 97,-26 67,-26 67,-56
  region: 56,-56 56,-26 26,-26 26,-56
  region: 15,-56 15,-26 -15,-26 -15,-56
  region: -67,-97 -67,-67 -97,-67 -97,-97
  region: -26,-97 -26,-67 -56,-67 -56,-97
  region: 97,-97 97,-67 67,-67 67,-97
  region: 56,-97 56,-67 26,-67 26,-97
  region: 15,-97 15,-67 -15,-67 -15,-97
Top Solder:
  region: -184,-260 -184,-210 -196,-210 -196,-260
  lines w10: -256,-173 -214,-173 ; -256,-157 -214,-157 ; -256,-142 -214,-142 ; -256,-126 -214,-126 ; -256,-110 -214,-110 ; -256,-94 -214,-94 ; -256,-79 -214,-79 ; -256,-63 -214,-63 ; -256,-47 -214,-47 ; -256,-31 -214,-31 ; -256,-16 -214,-16 ; -256,0 -214,0 ; -256,16 -214,16 ; -256,31 -214,31 ; -256,47 -214,47 ; -256,63 -214,63 ; -256,79 -214,79 ; -256,94 -214,94 ; -256,110 -214,110 ; -256,126 -214,126 ; -256,142 -214,142 ; -256,157 -214,157 ; -256,173 -214,173 ; -173,-256 -173,-214 ; -173,214 -173,256 ; -157,-256 -157,-214 ; -157,214 -157,256 ; -142,-256 -142,-214 ; -142,214 -142,256 ; -126,-256 -126,-214 ; -126,214 -126,256 ; -110,-256 -110,-214 ; -110,214 -110,256 ; -94,-256 -94,-214 ; -94,214 -94,256 ; -79,-256 -79,-214 ; -79,214 -79,256 ; -63,-256 -63,-214 ; -63,214 -63,256 ; -47,-256 -47,-214 ; -47,214 -47,256 ; -31,-256 -31,-214 ; -31,214 -31,256 ; -16,-256 -16,-214 ; -16,214 -16,256 ; 0,-256 0,-214 ; 0,214 0,256 ; 16,-256 16,-214 ; 16,214 16,256 ; 31,-256 31,-214 ; 31,214 31,256 ; 47,-256 47,-214 ; 47,214 47,256 ; 63,-256 63,-214 ; 63,214 63,256 ; 79,-256 79,-214 ; 79,214 79,256 ; 94,-256 94,-214 ; 94,214 94,256 ; 110,-256 110,-214 ; 110,214 110,256 ; 126,-256 126,-214 ; 126,214 126,256 ; 142,-256 142,-214 ; 142,214 142,256 ; 157,-256 157,-214 ; 157,214 157,256 ; 173,-256 173,-214 ; 173,214 173,256 ; 214,-173 256,-173 ; 214,-157 256,-157 ; 214,-142 256,-142 ; 214,-126 256,-126 ; 214,-110 256,-110 ; 214,-94 256,-94 ; 214,-79 256,-79 ; 214,-63 256,-63 ; 214,-47 256,-47 ; 214,-31 256,-31 ; 214,-16 256,-16 ; 214,0 256,0 ; 214,16 256,16 ; 214,31 256,31 ; 214,47 256,47 ; 214,63 256,63 ; 214,79 256,79 ; 214,94 256,94 ; 214,110 256,110 ; 214,126 256,126 ; 214,142 256,142 ; 214,157 256,157 ; 214,173 256,173
  lines w12: -255,-190 -215,-190 ; -255,190 -215,190 ; -190,215 -190,255 ; 190,-255 190,-215 ; 190,215 190,255 ; 215,-190 255,-190 ; 215,190 255,190
Mechanical 1:
  lines w4: -238,-208 -238,238 238,238 238,-238 -208,-238 -238,-208
Mechanical 15:
  lines w4: -20,0 20,0 ; 0,-20 0,20

## QFP44 [mil] "http://www.nxp.com/acrobat_download/packages/SOT307-2.pdf"
pads (44):
  rect 16x58 smd mask+4: 1(-157,-243)
  oval 16x60 smd mask+4: 2(-126,-243) 3(-94,-243) 4(-63,-243) 5(-31,-243) 6(0,-243) 7(31,-243) 8(63,-243) 9(94,-243) 10(126,-243) 11(157,-243) 23(157,243) 24(126,243) 25(94,243) 26(63,243) 27(31,243) 28(0,243) 29(-31,243) 30(-63,243) 31(-94,243) 32(-126,243) 33(-157,243)
  oval 60x16 smd mask+4: 12(243,-157) 13(243,-126) 14(243,-94) 15(243,-63) 16(243,-31) 17(243,0) 18(243,31) 19(243,63) 20(243,94) 21(243,126) 22(243,157) 34(-243,157) 35(-243,126) 36(-243,94) 37(-243,63) 38(-243,31) 39(-243,0) 40(-243,-31) 41(-243,-63) 42(-243,-94) 43(-243,-126) 44(-243,-157)
Top Overlay:
  lines w8: -198,-168 -198,198 198,198 198,-198 -168,-198 -198,-168
Mechanical 1:
  lines w4: -198,-168 -198,198 198,198 198,-198 -168,-198 -198,-168
Mechanical 15:
  lines w4: -20,0 20,0 ; 0,-20 0,20

## QFP44-14X14 [mil] "http://www.nxp.com/acrobat_download/packages/SOT205-1.pdf"
pads (44):
  rect 24x88 smd mask+4: 1(-197,-337)
  oval 24x90 smd mask+4: 2(-157,-337) 3(-118,-337) 4(-79,-337) 5(-39,-337) 6(0,-337) 7(39,-337) 8(79,-337) 9(118,-337) 10(157,-337) 11(197,-337) 23(197,337) 24(157,337) 25(118,337) 26(79,337) 27(39,337) 28(0,337) 29(-39,337) 30(-79,337) 31(-118,337) 32(-157,337) 33(-197,337)
  oval 90x24 smd mask+4: 12(337,-197) 13(337,-157) 14(337,-118) 15(337,-79) 16(337,-39) 17(337,0) 18(337,39) 19(337,79) 20(337,118) 21(337,157) 22(337,197) 34(-337,197) 35(-337,157) 36(-337,118) 37(-337,79) 38(-337,39) 39(-337,0) 40(-337,-39) 41(-337,-79) 42(-337,-118) 43(-337,-157) 44(-337,-197)
Top Overlay:
  lines w8: -277,-247 -277,277 277,277 277,-277 -247,-277 -277,-247
Mechanical 1:
  lines w4: -277,-247 -277,277 277,277 277,-277 -247,-277 -277,-247
Mechanical 15:
  lines w4: -20,0 20,0 ; 0,-20 0,20

## QFP52 [mil] "http://www.nxp.com/acrobat_download/packages/SOT379-1.pdf"
pads (52):
  rect 16x54 smd mask-1000: 1(-154,-241)
  oval 16x56 smd mask-1000: 2(-128,-241) 3(-102,-241) 4(-77,-241) 5(-51,-241) 6(-26,-241) 7(0,-241) 8(26,-241) 9(51,-241) 10(77,-241) 11(102,-241) 12(128,-241) 13(154,-241) 27(154,241) 28(128,241) 29(102,241) 30(77,241) 31(51,241) 32(26,241) 33(0,241) 34(-26,241) 35(-51,241) 36(-77,241) 37(-102,241) 38(-128,241) 39(-154,241)
  oval 56x16 smd mask-1000: 14(241,-154) 15(241,-128) 16(241,-102) 17(241,-77) 18(241,-51) 19(241,-26) 20(241,0) 21(241,26) 22(241,51) 23(241,77) 24(241,102) 25(241,128) 26(241,154) 40(-241,154) 41(-241,128) 42(-241,102) 43(-241,77) 44(-241,51) 45(-241,26) 46(-241,0) 47(-241,-26) 48(-241,-51) 49(-241,-77) 50(-241,-102) 51(-241,-128) 52(-241,-154)
Top Overlay:
  lines w8: -198,-168 -168,-198 198,-198 198,198 -198,198 -198,-168
Top Solder:
  region: -145,-272 -145,-210 -165,-210 -165,-272
  lines w18: -264,-128 -218,-128 ; -264,-102 -218,-102 ; -264,-77 -218,-77 ; -264,-51 -218,-51 ; -264,-26 -218,-26 ; -264,0 -218,0 ; -264,26 -218,26 ; -264,51 -218,51 ; -264,77 -218,77 ; -264,102 -218,102 ; -264,128 -218,128 ; -128,-264 -128,-218 ; -128,218 -128,264 ; -102,-264 -102,-218 ; -102,218 -102,264 ; -77,-264 -77,-218 ; -77,218 -77,264 ; -51,-264 -51,-218 ; -51,218 -51,264 ; -26,-264 -26,-218 ; -26,218 -26,264 ; 0,-264 0,-218 ; 0,218 0,264 ; 26,-264 26,-218 ; 26,218 26,264 ; 51,-264 51,-218 ; 51,218 51,264 ; 77,-264 77,-218 ; 77,218 77,264 ; 102,-264 102,-218 ; 102,218 102,264 ; 128,-264 128,-218 ; 128,218 128,264 ; 218,-128 264,-128 ; 218,-102 264,-102 ; 218,-77 264,-77 ; 218,-51 264,-51 ; 218,-26 264,-26 ; 218,0 264,0 ; 218,26 264,26 ; 218,51 264,51 ; 218,77 264,77 ; 218,102 264,102 ; 218,128 264,128
  lines w20: -263,-155 -219,-155 ; -263,155 -219,155 ; -155,219 -155,263 ; 155,-263 155,-219 ; 155,219 155,263 ; 219,-155 263,-155 ; 219,155 263,155
Mechanical 1:
  lines w4: -198,-168 -168,-198 198,-198 198,198 -198,198 -198,-168
Mechanical 15:
  lines w4: -20,0 20,0 ; 0,-20 0,20